# EAGLE library part STM8S208C8 (library mylib)
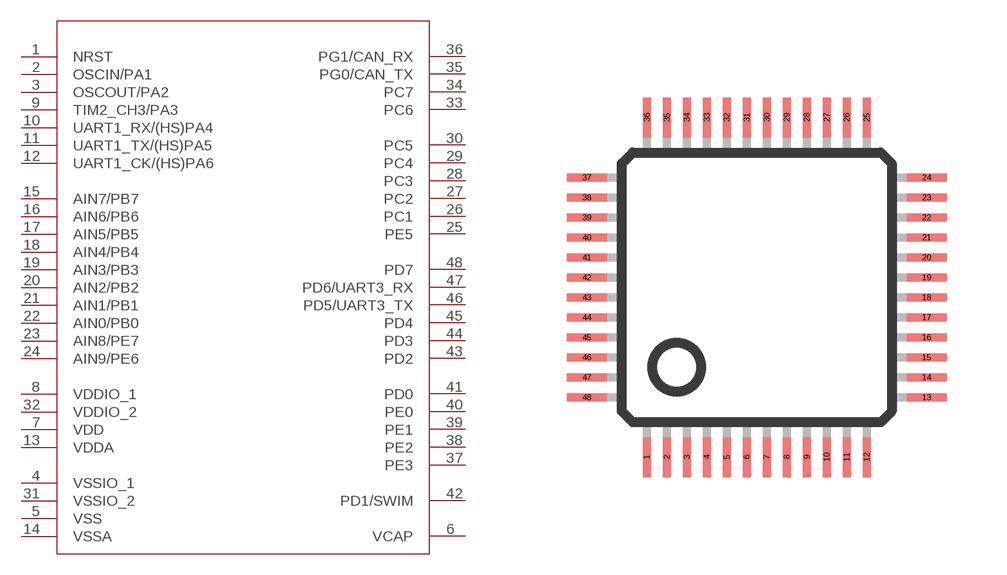
[diagram p0: symbol with the pads of LQFP48; footprint LQFP48]

Designator prefix -

## STM8S208C8  [LQFP48]
1  NRST
2  OSCIN/PA1
3  OSCOUT/PA2
4  VSSIO_1
5  VSS
6  VCAP
7  VDD
8  VDDIO_1
9  TIM2_CH3/PA3
10  UART1_RX/(HS)PA4
11  UART1_TX/(HS)PA5
12  UART1_CK/(HS)PA6
13  VDDA
14  VSSA
15  AIN7/PB7
16  AIN6/PB6
17  AIN5/PB5
18  AIN4/PB4
19  AIN3/PB3
20  AIN2/PB2
21  AIN1/PB1
22  AIN0/PB0
23  AIN8/PE7
24  AIN9/PE6
25  PE5
26  PC1
27  PC2
28  PC3
29  PC4
30  PC5
31  VSSIO_2
32  VDDIO_2
33  PC6
34  PC7
35  PG0/CAN_TX
36  PG1/CAN_RX
37  PE3
38  PE2
39  PE1
40  PE0
41  PD0
42  PD1/SWIM
43  PD2
44  PD3
45  PD4
46  PD5/UART3_TX
47  PD6/UART3_RX
48  PD7

## Footprint LQFP48 (pad centres in mm)
48-pin plastic LQFP (FPT-48P-M26) www.fma.fujitsu.com/pdf/e713717.pdf
smd 0.2 x 1: 1 -2.75,-4.25; 2 -2.25,-4.25; 3 -1.75,-4.25; 4 -1.25,-4.25; 5 -0.75,-4.25; 6 -0.25,-4.25; 7 0.25,-4.25; 8 0.75,-4.25; 9 1.25,-4.25; 10 1.75,-4.25; 11 2.25,-4.25; 12 2.75,-4.25; 25 2.75,4.25; 26 2.25,4.25; 27 1.75,4.25; 28 1.25,4.25; 29 0.75,4.25; 30 0.25,4.25; 31 -0.25,4.25; 32 -0.75,4.25; 33 -1.25,4.25; 34 -1.75,4.25; 35 -2.25,4.25; 36 -2.75,4.25
smd 1 x 0.2: 13 4.25,-2.75; 14 4.25,-2.25; 15 4.25,-1.75; 16 4.25,-1.25; 17 4.25,-0.75; 18 4.25,-0.25; 19 4.25,0.25; 20 4.25,0.75; 21 4.25,1.25; 22 4.25,1.75; 23 4.25,2.25; 24 4.25,2.75; 37 -4.25,2.75; 38 -4.25,2.25; 39 -4.25,1.75; 40 -4.25,1.25; 41 -4.25,0.75; 42 -4.25,0.25; 43 -4.25,-0.25; 44 -4.25,-0.75; 45 -4.25,-1.25; 46 -4.25,-1.75; 47 -4.25,-2.25; 48 -4.25,-2.75